# EAGLE library part MCP73833T-BZI/UN (library MCP73833T-BZI_UN)
LI-ION/LI-POLY CONTROLLERS
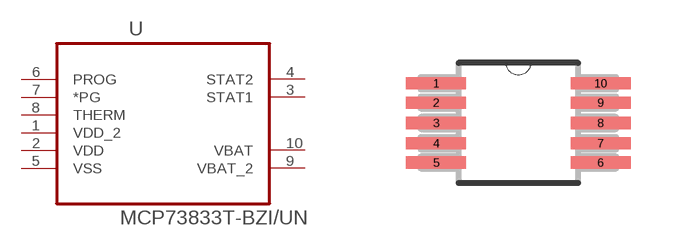
[diagram p0: symbol with the pads of SOP50P490X110-10N; footprint SOP50P490X110-10N]

Designator prefix U

## MCP73833T-BZI/UN (Availability: Good; Description: Linear Charge Management Controller Li-Ion/Li-Pol 1mA 4.2V/4.35V/4.4V/4.5V 10-Pin MSOP T/R; MF: Microchip; MP: MCP73833T-BZI/UN; Package: MSOP-10 Microchip; Price: 0.72 USD)  [SOP50P490X110-10N]
1  VDD_2  pwr
2  VDD  pwr
3  STAT1  out
4  STAT2  out
5  VSS  pas
6  PROG  in
7  *PG  in
8  THERM  in
9  VBAT_2  out
10  VBAT  out

## Footprint SOP50P490X110-10N (pad centres in mm)
smd 1.499 x 0.305: 1 -2.057,0.991; 2 -2.057,0.508; 3 -2.057,0; 4 -2.057,-0.508; 5 -2.057,-0.991; 6 2.057,-0.991; 7 2.057,-0.508; 8 2.057,0; 9 2.057,0.508; 10 2.057,0.991